# Altium footprint library RB1.PcbLib: 21 footprints (part 1 of 2)
Each footprint in its own frame and in the unit in brackets; x right, y up, seen from the top. Pads: shape width x height; smd on the part's side, far side on the other; paste and mask are expansions set on the pad; w line width, h text height; cw(c..) or ccw(c..) is an arc to the next point about the centre after c.
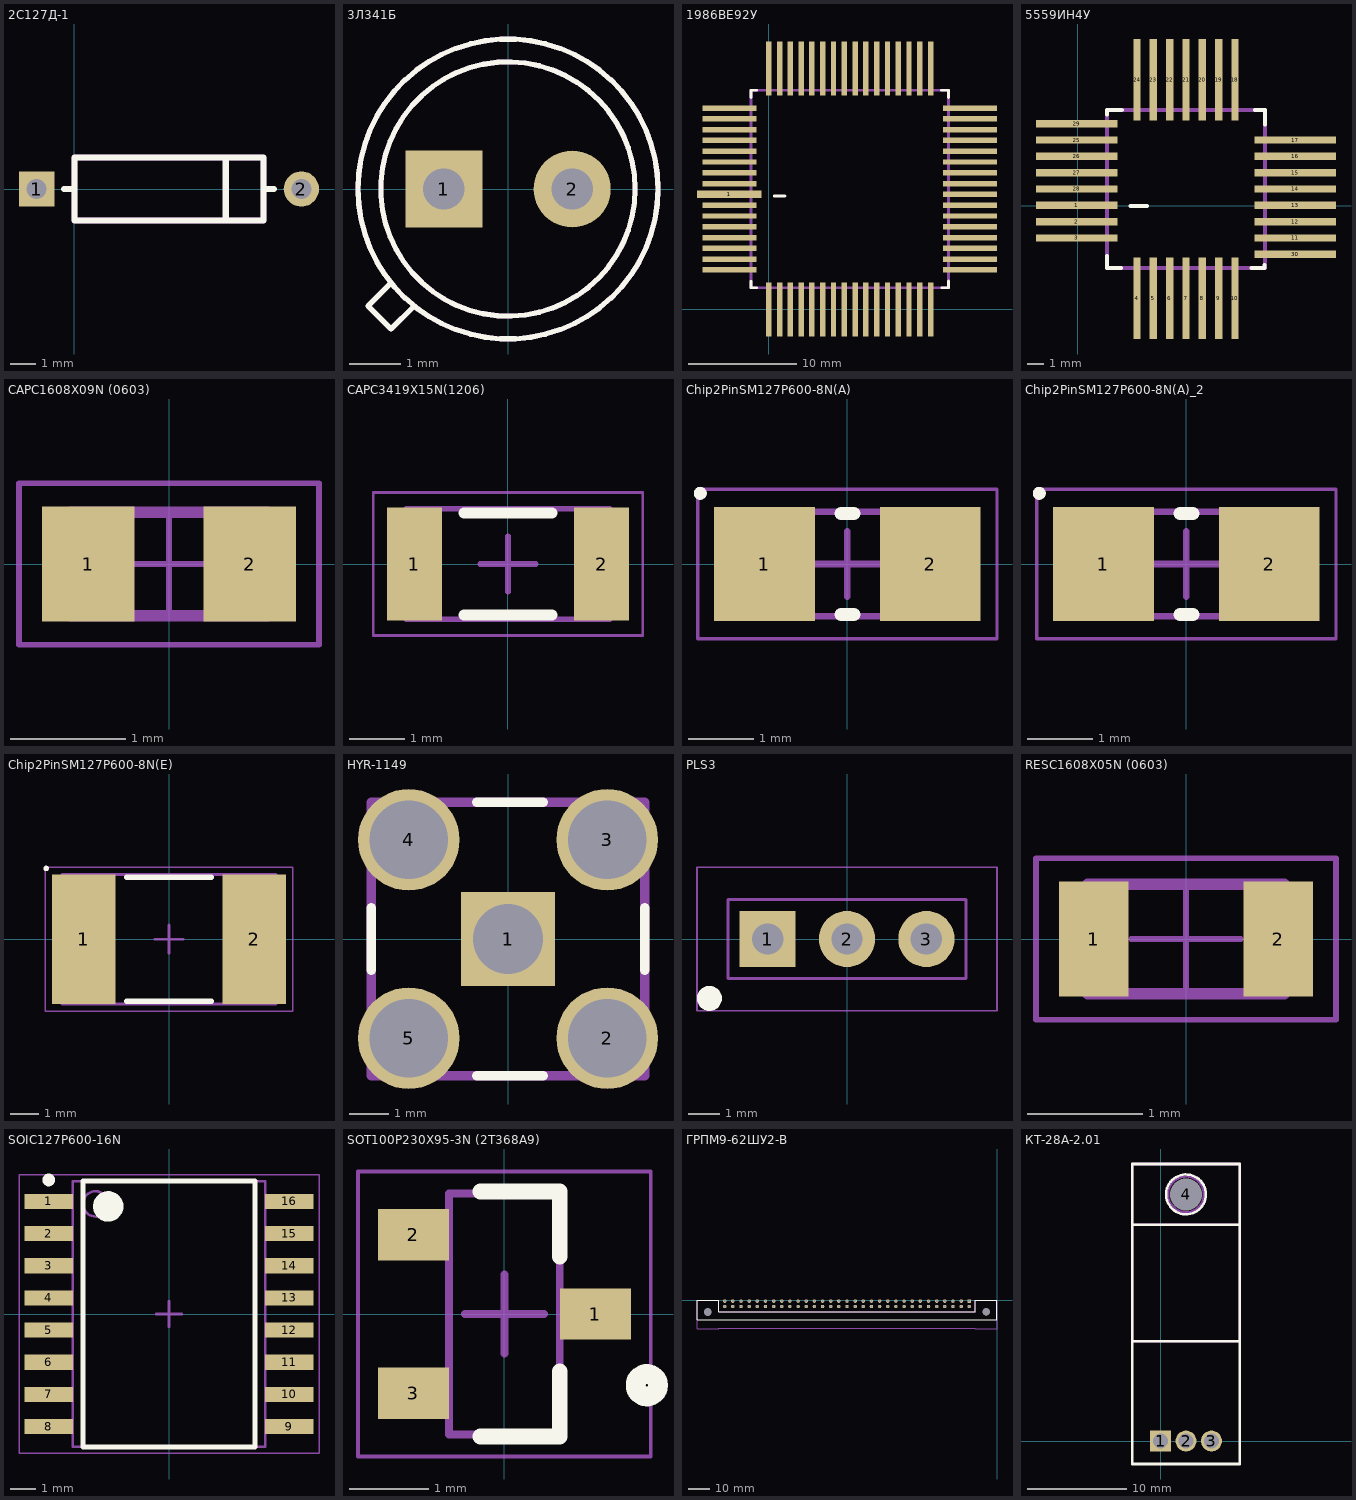
[diagram p0: the footprints below, top view; thin cyan lines are the x and y axes]

## 2С127Д-1 [mm]
pads (2):
  rect 1.4x1.4 hole 0.8: 1(-1.5,0)
  round 1.4 hole 0.8: 2(9,0)
Top Overlay:
  lines w0.254: -0.4,0 0,0 ; 6,-1.25 6,1.25 ; 7.5,0 7.9,0 ; 0,-1.25 0,1.25 7.5,1.25 7.5,-1.25 0,-1.25
Mechanical 13:
  lines w0.254: 0,-1.25 0,1.25 7.5,1.25 7.5,-1.25 0,-1.25

## 3Л341Б [mm]
pads (2):
  rect 1.5x1.5 hole 0.8: 1(-1.25,0)
  round 1.5 hole 0.8: 2(1.25,0)
Top Overlay:
  circle w0.1: c0,0 r2.475
  circle w0.1: c0,0 r2.92
  lines w0.1: -2.287,-1.837 -2.725,-2.275 -2.275,-2.725 -1.825,-2.275
Mechanical 13:
  circle w0.1: c0,0 r2.475
  circle w0.1: c0,0 r2.92
  lines w0.1: -2.275,-1.825 -2.725,-2.275 -2.275,-2.725 -1.825,-2.275 ; -1.825,-2.275 -1.825,-2.275

## 1986ВЕ92У [mm]
pads (64):
  rect 6x0.7 smd: 1(-3.65,10.65)
  rect 5x0.5 smd: 2(-3.65,9.65) 3(-3.65,8.65) 4(-3.65,7.65) 5(-3.65,6.65) 6(-3.65,5.65) 7(-3.65,4.65) 8(-3.65,3.65) 25(18.65,3.65) 26(18.65,4.65) 27(18.65,5.65) 28(18.65,6.65) 29(18.65,7.65) 30(18.65,8.65) 31(18.65,9.65) 32(18.65,10.65) 33(18.65,11.65) 34(18.65,12.65) 35(18.65,13.65) 36(18.65,14.65) 37(18.65,15.65) 38(18.65,16.65) 39(18.65,17.65) 40(18.65,18.65) 57(-3.65,18.65) 58(-3.65,17.65) 59(-3.65,16.65) 60(-3.65,15.65) 61(-3.65,14.65) 62(-3.65,13.65) 63(-3.65,12.65) 64(-3.65,11.65)
  rect 0.5x5 smd: 9(0,0) 10(1,0) 11(2,0) 12(3,0) 13(4,0) 14(5,0) 15(6,0) 16(7,0) 17(8,0) 18(9,0) 19(10,0) 20(11,0) 21(12,0) 22(13,0) 23(14,0) 24(15,0) 41(15,22.3) 42(14,22.3) 43(13,22.3) 44(12,22.3) 45(11,22.3) 46(10,22.3) 47(9,22.3) 48(8,22.3) 49(7,22.3) 50(6,22.3) 51(5,22.3) 52(4,22.3) 53(3,22.3) 54(2,22.3) 55(1,22.3) 56(0,22.3)
Top Overlay:
  lines w0.254: -1.65,2.6 -1.65,2 -1.125,2 ; -1.65,19.625 -1.65,20.3 -1.125,20.3 ; 0.5,10.5 1.5,10.5 ; 16,20.3 16.65,20.3 16.65,19.625 ; 16.025,2 16.65,2 16.65,2.625
Mechanical 13:
  lines w0.254: -1.65,2 16.65,2 16.65,20.3 -1.65,20.3 -1.65,2

## 5559ИН4У [mm]
pads (30):
  rect 5x0.45 smd: 1(-0.05,0.04) 2(-0.05,-0.96) 3(-0.05,-1.96) 11(13.33,-1.96) 12(13.33,-0.96) 13(13.33,0.04) 14(13.33,1.04) 15(13.33,2.04) 16(13.33,3.04) 17(13.33,4.04) 25(-0.05,4.04) 26(-0.05,3.04) 27(-0.05,2.04) 28(-0.05,1.04) 29(-0.05,5.04) 30(13.33,-2.96)
  rect 0.45x5 smd: 4(3.64,-5.65) 5(4.64,-5.65) 6(5.64,-5.65) 7(6.64,-5.65) 8(7.64,-5.65) 9(8.64,-5.65) 10(9.64,-5.65) 18(9.64,7.73) 19(8.64,7.73) 20(7.64,7.73) 21(6.64,7.73) 22(5.64,7.73) 23(4.64,7.73) 24(3.64,7.73)
Top Overlay:
  lines w0.254: 1.8,-3.075 1.8,-3.8 2.65,-3.8 ; 1.8,5.6 1.8,5.8 ; 1.8,5.85 1.8,5.875 2.7,5.875 ; 3.25,0 4.25,0 ; 10.65,-3.8 11.45,-3.8 11.45,-3.625 ; 10.875,5.875 11.475,5.875 11.475,5
Mechanical 13:
  lines w0.254: 1.8,5.87 1.81,-3.8 11.47,-3.8 11.47,5.87 ; 1.8,5.875 11.475,5.875

## CAPC1608X09N (0603) [mm]
pads (2):
  rect 0.8x1 smd: 1(-0.7,0) 2(0.7,0)
Mechanical 13:
  lines w0.1: -0.85,-0.45 -0.85,0.45 0.85,0.45 0.85,-0.45 -0.85,-0.45
Mechanical 15:
  lines w0.05: -0.45,0 0.45,0 ; 0,-0.45 0,0.45 ; -1.3,-0.7 -1.3,0.7 1.3,0.7 1.3,-0.7 -1.3,-0.7
3D body "CAPC1608X09N(0603).step": height 0.9, standoff 0, extent -0.85,-0.45 0.85,0.45

## CAPC3419X15N(1206) [mm]
pads (2):
  rect 1x2.05 smd: 1(-1.7,0) 2(1.7,0)
Top Overlay:
  lines w0.2: -0.8,-0.925 0.8,-0.925 ; -0.8,0.925 0.8,0.925
Mechanical 13:
  lines w0.1: -1.85,-1 -1.85,1 1.85,1 1.85,-1 -1.85,-1
Mechanical 15:
  lines w0.05: -2.45,-1.3 -2.45,1.3 2.45,1.3 2.45,-1.3 -2.45,-1.3
  lines w0.1: -0.5,0 0.5,0 ; 0,-0.5 0,0.5
3D body: height 1.5, standoff 0, extent -1.6,-1 1.6,1
3D body: height 1.5, standoff 0, extent -1.85,-1 -1.6,1
3D body: height 1.5, standoff 0, extent 1.6,-1 1.85,1

## Chip2PinSM127P600-8N(A) [mm]
pads (2):
  rect 1.55x1.75 smd: 1(-1.275,0) 2(1.275,0)
Top Overlay:
  circle w0.1: c-2.262,1.087 r0.05
  lines w0.2: -0.1,-0.775 0.1,-0.775 ; -0.1,0.775 0.1,0.775
Mechanical 13:
  lines w0.1: -1.6,-0.8 -1.6,0.8 1.6,0.8 1.6,-0.8 -1.6,-0.8
Mechanical 15:
  lines w0.05: -2.3,-1.15 -2.3,1.15 2.3,1.15 2.3,-1.15 -2.3,-1.15
  lines w0.1: -0.5,0 0.5,0 ; 0,-0.5 0,0.5
3D body: height 1.8, standoff 0, extent -0.8,-0.8 0.8,0.8
3D body: height 1.8, standoff 0, extent -1.6,-0.8 -0.8,0.8
3D body: height 1.8, standoff 0, extent 0.8,-0.8 1.6,0.8

## Chip2PinSM127P600-8N(A)_2 [mm]
pads (2):
  rect 1.55x1.75 smd: 1(-1.275,0) 2(1.275,0)
Top Overlay:
  circle w0.1: c-2.262,1.087 r0.05
  lines w0.2: -0.1,-0.775 0.1,-0.775 ; -0.1,0.775 0.1,0.775
Mechanical 13:
  lines w0.1: -1.6,-0.8 -1.6,0.8 1.6,0.8 1.6,-0.8 -1.6,-0.8
Mechanical 15:
  lines w0.05: -2.3,-1.15 -2.3,1.15 2.3,1.15 2.3,-1.15 -2.3,-1.15
  lines w0.1: -0.5,0 0.5,0 ; 0,-0.5 0,0.5
3D body: height 1.8, standoff 0, extent -0.8,-0.8 0.8,0.8
3D body: height 1.8, standoff 0, extent -1.6,-0.8 -0.8,0.8
3D body: height 1.8, standoff 0, extent 0.8,-0.8 1.6,0.8

## Chip2PinSM127P600-8N(E) [mm]
pads (2):
  rect 2.25x4.6 smd: 1(-3.025,0) 2(3.025,0)
Top Overlay:
  circle w0.1: c-4.362,2.512 r0.05
  lines w0.2: -1.5,-2.2 1.5,-2.2 ; -1.5,2.2 1.5,2.2
Mechanical 13:
  lines w0.1: -3.8,-2.3 3.8,-2.3 3.8,2.3 -3.8,2.3 -3.8,-2.3
Mechanical 15:
  lines w0.05: -4.4,-2.55 4.4,-2.55 4.4,2.55 -4.4,2.55 -4.4,-2.55
  lines w0.1: -0.5,0 0.5,0 ; 0,-0.5 0,0.5
3D body: height 4.1, standoff 0, extent 2.5,-2.3 3.8,2.3
3D body: height 4.1, standoff 0, extent -3.8,-2.3 -2.5,2.3
3D body: height 4.1, standoff 0, extent -2.5,-2.3 2.5,2.3

## HYR-1149 [mm]
pads (5):
  rect 2.4x2.4 hole 1.8: 1(0,0)
  round 2.6 hole 2: 2(2.54,-2.54) 3(2.54,2.54) 4(-2.54,2.54) 5(-2.54,-2.54)
Top Overlay:
  lines w0.254: -3.5,-0.8 -3.5,0.8 ; -0.8,-3.5 0.9,-3.5 ; -0.8,3.5 0.9,3.5 ; 3.5,-0.8 3.5,0.8
Mechanical 13:
  lines w0.254: -3.5,-3.5 -3.5,3.5 3.5,3.5 3.5,-3.5 -3.5,-3.5

## PLS3 [mm]
pads (3):
  rect 1.8x1.8 hole 1: 1(-2.54,0)
  round 1.8 hole 1: 2(0,0) 3(2.54,0)
Top Overlay:
  circle w0.4: c-4.4,-1.9 r0.2
Mechanical 13:
  lines w0.1: -3.81,-1.27 -3.81,1.27 3.81,1.27 3.81,-1.27 -3.81,-1.27
Mechanical 15:
  lines w0.05: -4.8,-2.3 4.8,-2.3 4.8,2.3 -4.8,2.3 -4.8,-2.3
3D body "PLS-3.STEP": height 9.05, standoff -2.75, extent -3.81,-1.27 3.81,1.27

## RESC1608X05N (0603) [mm]
pads (2):
  rect 0.6x1 smd: 1(-0.8,0) 2(0.8,0)
Mechanical 13:
  lines w0.1: -0.85,-0.475 0.85,-0.475 0.85,0.475 -0.85,0.475 -0.85,-0.475
Mechanical 15:
  lines w0.05: -0.475,0 0.475,0 ; 0,-0.475 0,0.475 ; -1.3,-0.7 1.3,-0.7 1.3,0.7 -1.3,0.7 -1.3,-0.7
3D body "RESC1608X05N(0603).step": height 0.45, standoff 0, extent -0.85,-0.475 0.85,0.475

## SOIC127P600-16N [mm]
pads (16):
  rect 1.9x0.6 smd: 1(-4.75,4.445) 2(-4.75,3.175) 3(-4.75,1.905) 4(-4.75,0.635) 5(-4.75,-0.635) 6(-4.75,-1.905) 7(-4.75,-3.175) 8(-4.75,-4.445) 9(4.75,-4.445) 10(4.75,-3.175) 11(4.75,-1.905) 12(4.75,-0.635) 13(4.75,0.635) 14(4.75,1.905) 15(4.75,3.175) 16(4.75,4.445)
Top Overlay:
  circle w0.25: c-4.75,5.295 r0.125
  circle w0.6: c-2.4,4.25 r0.3
  lines w0.2: -3.4,-5.25 -3.4,5.25 3.4,5.25 3.4,-5.25 -3.4,-5.25
Mechanical 13:
  circle w0.1: c-2.9,4.35 r0.5
  lines w0.1: -3.8,-5.25 -3.8,5.25 3.8,5.25 3.8,-5.25 -3.8,-5.25
Mechanical 15:
  lines w0.05: -5.925,-5.5 -5.925,5.5 5.925,5.5 5.925,-5.5 -5.925,-5.5
  lines w0.1: -0.5,0 0.5,0 ; 0,-0.5 0,0.5
3D body: height 2.65, standoff 0.3, extent -3.8,-5.25 3.8,5.25

## SOT100P230X95-3N (2T368A9) [mm]
pads (3):
  rect 0.9x0.65 smd: 1(1.15,0) 2(-1.15,1) 3(-1.15,-1)
Top Overlay:
  circle w0.25: c1.8,-0.9 r0.141
  lines w0.2: -0.3,-1.55 0.7,-1.55 0.7,-0.725 ; -0.3,1.55 0.7,1.55 0.7,0.725
Mechanical 13:
  lines w0.1: -0.7,-1.525 0.7,-1.525 0.7,1.525 -0.7,1.525 -0.7,-1.525
Mechanical 15:
  lines w0.05: -1.85,-1.8 1.85,-1.8 1.85,1.8 -1.85,1.8 -1.85,-1.8
  lines w0.1: -0.5,0 0.5,0 ; 0,-0.5 0,0.5
3D body: height 0.95, standoff 0.15, extent -0.7,-1.525 0.7,1.525

## ГРПМ9-62ШУ2-В [mm]
pads (64):
  round 3.2 hole 3.5: 1(-133,-5.35) 2(-5,-5.3)
  rect 1.6x1.6 hole 1: 1A(-12.75,-0.3)
  round 1.6 hole 1: 1B(-12.75,-2.8) 2A(-16.5,-0.3) 2B(-16.5,-2.8) 3A(-20.25,-0.3) 3B(-20.25,-2.8) 4A(-24,-0.3) 4B(-24,-2.8) 5A(-27.75,-0.3) 5B(-27.75,-2.8) 6A(-31.5,-0.3) 6B(-31.5,-2.8) 7A(-35.25,-0.3) 7B(-35.25,-2.8) 8A(-39,-0.3) 8B(-39,-2.8) 9A(-42.75,-0.3) 9B(-42.75,-2.8) 10A(-46.5,-0.3) 10B(-46.5,-2.8) 11A(-50.25,-0.3) 11B(-50.25,-2.8) 12A(-54,-0.3) 12B(-54,-2.8) 13A(-57.75,-0.3) 13B(-57.75,-2.8) 14A(-61.5,-0.3) 14B(-61.5,-2.8) 15A(-65.25,-0.3) 15B(-65.25,-2.8) 16A(-69,-0.3) 16B(-69,-2.8) 17A(-72.75,-0.3) 17B(-72.75,-2.8) 18A(-76.5,-0.3) 18B(-76.5,-2.8) 19A(-80.25,-0.3) 19B(-80.25,-2.8) 20A(-84,-0.3) 20B(-84,-2.8) 21A(-87.75,-0.3) 21B(-87.75,-2.8) 22A(-91.5,-0.3) 22B(-91.5,-2.8) 23A(-95.25,-0.3) 23B(-95.25,-2.8) 24A(-99,-0.3) 24B(-99,-2.8) 25A(-102.75,-0.3) 25B(-102.75,-2.8) 26A(-106.5,-0.3) 26B(-106.5,-2.8) 27A(-110.25,-0.3) 27B(-110.25,-2.8) 28A(-114,-0.3) 28B(-114,-2.8) 29A(-117.75,-0.3) 29B(-117.75,-2.8) 30A(-121.5,-0.3) 30B(-121.5,-2.8) 31A(-125.25,-0.3) 31B(-125.25,-2.8)
Top Overlay:
  lines w0.254: -10,-5.275 -128.1,-5.275 -128.1,0 -138,0 -138,-9 -128.025,-9 -9.975,-9 0,-9 0,0 -10,0 -10,-5.25
Mechanical 13:
  lines w0.254: -128.025,-12.8 -128.025,-13 -138,-13 -138,0 -128.1,0 -128.1,-5.275 -10.025,-5.275 ; -128,-12.8 -9.975,-12.8 -9.975,-12.975 ; -10,-5.25 -10,-0.05 -9.95,0 0,0 0,-12.975 -0.025,-13 -9.95,-13

## КТ-28А-2.01 [mm]
pads (4):
  rect 2.1x2.1 hole 1.5: 1(0,0)
  round 2.1 hole 1.5: 2(2.55,0) 3(5.1,0)
  round 2 hole 3.2: 4(2.55,24.75)
Top Overlay:
  circle w0.254: c2.55,24.75 r2
  lines w0.254: -2.85,10 7.95,10 ; -2.85,21.7 7.95,21.7 ; -2.85,-2.3 -2.85,27.8 7.95,27.8 7.95,-2.3 -2.85,-2.3
Mechanical 13:
  circle w0.254: c2.55,24.75 r1.8
  lines w0.254: -2.85,21.7 7.95,21.7 ; -2.85,10 -2.85,27.8 7.95,27.8 7.95,10 -2.85,10